# Altium footprint library YAYAT-LIB.PcbLib: 42 footprints (part 2 of 3)
Each footprint in its own frame and in the unit in brackets; x right, y up, seen from the top. Pads: shape width x height; smd on the part's side, far side on the other; paste and mask are expansions set on the pad; w line width, h text height; cw(c..) or ccw(c..) is an arc to the next point about the centre after c.
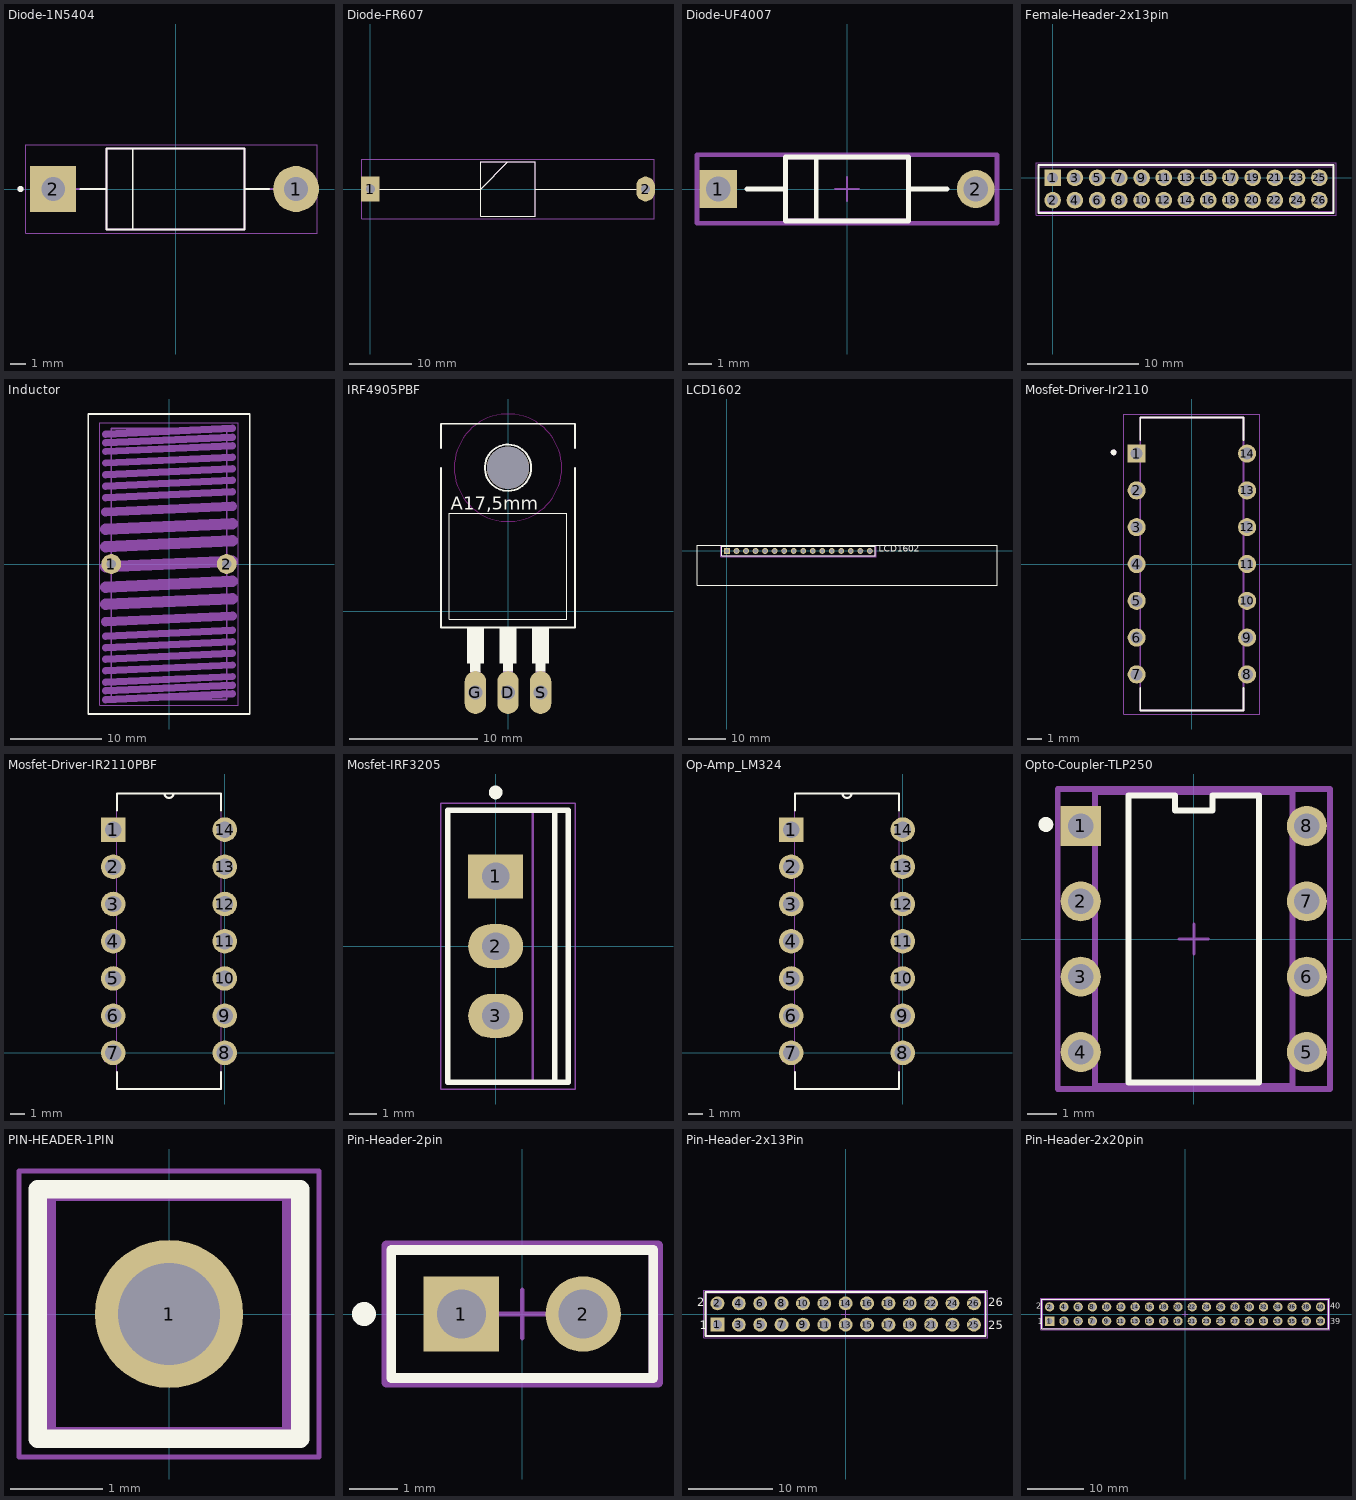
[diagram p1: the footprints below, top view; thin cyan lines are the x and y axes]

## Diode-1N5404 [mm]
pads (2):
  round 3 hole 1.55: 1(7.874,0)
  rect 3x3 hole 1.55: 2(-8.001,0)
Top Overlay:
  circle w0.2: c-10.133,0 r0.1
  lines w0.127: -6.223,0 -4.5,0 ; -2.8,-2.6 -2.8,2.6 ; 6.096,0 4.5,0 ; -4.5,0 -4.5,-2.65 4.5,-2.65 4.5,0 ; -4.5,0 -4.5,2.65 4.5,2.65 4.5,0
Mechanical 13:
  circle w0.2: c-10.133,0 r0.1
  lines w0.127: -6.477,0 -4.5,0 ; 6.35,0 4.5,0 ; -4.5,0 -4.5,-2.65 4.5,-2.65 4.5,0 ; -4.5,0 -4.5,2.65 4.5,2.65 4.5,0
Mechanical 15:
  lines w0.05: -9.779,-2.9 9.271,-2.9 9.271,2.9 -9.779,2.9 -9.779,-2.9
3D body "step_temp.STEP": height 5.6, standoff -14.67, extent -8.435,-2.8 8.435,2.8

## Diode-FR607 [mm]
pads (2):
  rect 3x4 hole 1.5: 1(0,0)
  oval 3x4 hole 1.5: 2(44.3,0)
Top Overlay:
  lines w0.2: 1.475,0 17.725,0 22.15,4.425 ; 26.575,0 42.825,0 ; 17.725,-4.425 17.725,4.425 26.575,4.425 26.575,-4.425 17.725,-4.425
Top Courtyard:
  lines w0.05: -1.375,-4.775 -1.375,4.775 45.675,4.775 45.675,-4.775 -1.375,-4.775
Mechanical 13:
  lines w0.1: 0,0 17.725,0 22.15,4.425 ; 26.575,0 44.3,0 ; 17.725,-4.425 17.725,4.425 26.575,4.425 26.575,-4.425 17.725,-4.425
3D body "FR607-G.stp": height 9.1, standoff -9.1, extent -0.645,-4.55 44.9,4.55

## Diode-UF4007 [mm]
pads (2):
  rect 1.6x1.6 hole 1.05 paste-1000 mask+0: 1(-5.438,0)
  round 1.6 hole 1.05 paste-1000 mask+0: 2(5.438,0)
Top Overlay:
  lines w0.2: -4.238,0 -2.6,0 ; -1.3,-1.28 -1.3,1.28 ; 2.6,0 4.238,0 ; -2.6,-1.35 2.6,-1.35 2.6,1.35 -2.6,1.35 -2.6,-1.35
Top 3D Body:
  lines w0.2: -2.6,-1.35 2.6,-1.35 2.6,1.35 -2.6,1.35 -2.6,-1.35
Top Assembly:
  lines w0.2: -6.338,-1.45 6.338,-1.45 6.338,1.45 -6.338,1.45 -6.338,-1.45
  text ".Designator" at 0,0.188 h1
Top Courtyard:
  lines w0.2: -6.338,-1.45 6.338,-1.45 6.338,1.45 -6.338,1.45 -6.338,-1.45
Top Component Center:
  lines w0.1: -0.5,0 0.5,0 ; 0,-0.5 0,0.5
3D body "Diode_Vishay_UF4007-E3-54_eec.STEP": height 0.25, standoff 0, extent -6.338,-1.45 6.338,1.45

## Female-Header-2x13pin [mm] "Socket Strip Assembly, 2x13 Pins, Vertical, 2mm Pitch, Female"
height 6.35
pads (26):
  rect 1.5x1.5 hole 0.99: 1(0,0)
  round 1.5 hole 0.99: 2(0,-2) 3(2,0) 4(2,-2) 5(4,0) 6(4,-2) 7(6,0) 8(6,-2) 9(8,0) 10(8,-2) 11(10,0) 12(10,-2) 13(12,0) 14(12,-2) 15(14,0) 16(14,-2) 17(16,0) 18(16,-2) 19(18,0) 20(18,-2) 21(20,0) 22(20,-2) 23(22,0) 24(22,-2) 25(24,0) 26(24,-2)
Top Overlay:
  lines w0.2: -1.275,-3.15 25.275,-3.15 25.275,1.15 -1.275,1.15 -1.275,-3.15
Mechanical 13:
  lines w0.1: -1.275,-3 25.275,-3 25.275,1 -1.275,1 -1.275,-3
Mechanical 15:
  lines w0.05: -1.5,-3.375 25.5,-3.375 25.5,1.375 -1.5,1.375 -1.5,-3.375
3D body "SQT-113-01-X-D.step": height 6.35, standoff -2.29, extent -1.149,-3 25.149,1

## Inductor [mil]
pads (2):
  round 86 hole 40: 1(-250,0) 2(250,0)
Top Overlay:
  lines w8: -350,-650 -350,650 350,650 350,-650 -350,-650
Mechanical 13:
  lines w2: -300,-612.5 300,-612.5 300,612.5 -300,612.5 -300,-612.5
  lines w8: -250,-587.5 250,-587.5 250,587.5 -250,587.5 -250,-587.5
  lines w32: -275,-587.5 275,-562.5 ; -275,-550 275,-525 ; -275,-512.5 275,-487.5 ; -275,-462.5 275,-437.5 ; -275,-412.5 275,-387.5 ; -275,-362.5 275,-337.5 ; -275,-312.5 275,-287.5 ; -275,287.5 275,312.5 ; -275,337.5 275,362.5 ; -275,387.5 275,412.5 ; -275,437.5 275,462.5 ; -275,487.5 275,512.5 ; -275,525 275,550 ; -275,562.5 275,587.5
  lines w40: -275,-250 275,-225 ; -275,225 275,250
  lines w50: -275,-175 275,-150 ; -275,-100 275,-75 ; -275,-12.5 275,12.5 ; -275,75 275,100 ; -275,150 275,175
3D body "PE-53117.STEP": height 1400, standoff -150, extent -355,-645 355,655

## IRF4905PBF [mil]
pads (4):
  oval 66x132 hole 44: D(0,-250) G(-100,-250) S(100,-250)
  round 130 hole 130 unplated: ""(0,440)
Top Overlay:
  circle w6: c0,440 r71
  region: 115,-185.4 85.18,-185.4 85.18,-160 115,-160
  region: 15,-185.1 -15.01,-185.1 -15.01,-160 15,-160
  region: -85,-185.55 -115.34,-185.55 -115.34,-160 -85,-160
  region: -75,-160.36 -125.28,-160.36 -125.28,-50 -75,-50
  region: 25,-160.26 -25.04,-160.26 -25.04,-50 25,-50
  region: 125,-160.29 75.14,-160.29 75.14,-50 125,-50
  lines w2: -180,-25 180,-25 180,300 -180,300 -180,-25
  lines w6: -205,440 -205,-50 205,-50 205,440 ; -205,500 -205,575 205,575 205,500
  text "A17,5mm" at -175.44,310.78 h40.1
Keep-Out Layer:
  circle w0: c0,440 r165
  circle w0: c0,440 r165
Mechanical 13:
  region: -85,-260.42 -115.19,-260.42 -115.19,-185 -85,-185
  region: 15,-260.55 -15.03,-260.55 -15.03,-185 15,-185
  region: 115,-260.12 85.04,-260.12 85.04,-185 115,-185

## LCD1602 [mm] ".025 SQ Post Terminal Strip Assembly, 1x16 Pins, Vertical, 2.54mm Pitch, Male"
height 8.58
pads (16):
  rect 1.55x1.55 hole 1.02: 1(0,0)
  round 1.55 hole 1.02: 2(2.54,0) 3(5.08,0) 4(7.62,0) 5(10.16,0) 6(12.7,0) 7(15.24,0) 8(17.78,0) 9(20.32,0) 10(22.86,0) 11(25.4,0) 12(27.94,0) 13(30.48,0) 14(33.02,0) 15(35.56,0) 16(38.1,0)
Top Overlay:
  lines w0.2: -8,-9.1 72,-9.1 72,1.5 -8,1.5 -8,-9.1 ; -1.46,-1.27 39.56,-1.27 39.56,1.27 -1.46,1.27 -1.46,-1.27
  text "LCD1602" at 40.5,-0.867 h3
Mechanical 13:
  lines w0.1: -1.46,-1.27 39.56,-1.27 39.56,1.27 -1.46,1.27 -1.46,-1.27
Mechanical 15:
  lines w0.05: -1.685,-1.495 39.785,-1.495 39.785,1.495 -1.685,1.495 -1.685,-1.495
3D body "TSW-116-08-X-S.step": height 8.38, standoff -5.08, extent -1.27,-1.27 39.37,1.27

## Mosfet-Driver-Ir2110 [mm]
pads (14):
  rect 1.25x1.25 hole 0.83: 1(-3.81,7.62)
  round 1.25 hole 0.83: 2(-3.81,5.08) 3(-3.81,2.54) 4(-3.81,0) 5(-3.81,-2.54) 6(-3.81,-5.08) 7(-3.81,-7.62) 8(3.81,-7.62) 9(3.81,-5.08) 10(3.81,-2.54) 11(3.81,0) 12(3.81,2.54) 13(3.81,5.08) 14(3.81,7.62)
Top Overlay:
  circle w0.2: c-5.4,7.7 r0.1
  lines w0.127: -3.56,-8.557 -3.56,-10.1 3.56,-10.1 3.56,-8.557 ; -3.56,8.557 -3.56,10.1 3.56,10.1 3.56,8.557
Mechanical 13:
  circle w0.2: c-5.4,7.7 r0.1
  lines w0.127: -3.56,-10.1 -3.56,10.1 3.56,10.1 3.56,-10.1 -3.56,-10.1
Mechanical 15:
  lines w0.05: -4.69,-10.35 -4.69,10.35 4.69,10.35 4.69,-10.35 -4.69,-10.35
3D body "IR2110--3DModel-STEP-56544.STEP": height 5.33, standoff -4.06, extent -4.083,-9.652 3.829,9.652

## Mosfet-Driver-IR2110PBF [mil]
pads (14):
  rect 66x66 hole 44: 1(-300,600)
  round 66 hole 44: 2(-300,500) 3(-300,400) 4(-300,300) 5(-300,200) 6(-300,100) 7(-300,0) 8(0,0) 9(0,100) 10(0,200) 11(0,300) 12(0,400) 13(0,500) 14(0,600)
Top Overlay:
  lines w6: -290,-51 -290,-97 -10,-97 -10,-51 ; -290,652 -290,697 -162,697 ; -10,651 -10,697 -138,697 ; -162,697 ccw(c-150,697) -138,697 ; -162,697 -138,697
Mechanical 13:
  lines w0: -162,697 ccw(c-150,697) -138,697 ; -162,697 -290,697 -290,-97 -10,-97 -10,697 -138,697 ; -162,697 -138,697 ; -322,-22 -290,-22 -290,22 -322,22 -322,-22 ; -322,78 -290,78 -290,122 -322,122 -322,78 ; -322,178 -290,178 -290,222 -322,222 -322,178 ; -322,278 -290,278 -290,322 -322,322 -322,278 ; -322,378 -290,378 -290,422 -322,422 -322,378 ; -322,478 -290,478 -290,522 -322,522 -322,478 ; -322,578 -290,578 -290,622 -322,622 -322,578 ; -10,-22 22,-22 22,22 -10,22 -10,-22 ; -10,78 22,78 22,122 -10,122 -10,78 ; -10,178 22,178 22,222 -10,222 -10,178 ; -10,278 22,278 22,322 -10,322 -10,278 ; -10,378 22,378 22,422 -10,422 -10,378 ; -10,478 22,478 22,522 -10,522 -10,478 ; -10,578 22,578 22,622 -10,622 -10,578
3D body "ir2110pbf.stp": height 177.17, standoff -157.48, extent -304.72,-79.84 0,680

## Mosfet-IRF3205 [mm] "FM, 3-Leads, Body 9.9x4.4mm, Pitch 2.54mm"
height 20.2
pads (3):
  rect 2x1.6 hole 1: 1(0,2.54)
  oval 2x1.6 hole 1: 2(0,0) 3(0,-2.54)
Top Overlay:
  circle w0.25: c0,5.6 r0.125
  lines w0.2: 2.15,-4.95 2.15,4.95 ; -1.75,-4.95 -1.75,4.95 2.65,4.95 2.65,-4.95 -1.75,-4.95
Mechanical 13:
  lines w0.1: 1.35,-4.95 1.35,4.95 ; -1.75,-4.95 2.65,-4.95 2.65,4.95 -1.75,4.95 -1.75,-4.95
Mechanical 15:
  lines w0.05: -2,-5.2 2.9,-5.2 2.9,5.2 -2,5.2 -2,-5.2
  lines w0.1: -0.5,0 0.5,0 ; 0,-0.5 0,0.5
3D body: height 20.2, standoff 19.25, extent 1.35,-4.95 2.65,4.95
3D body: height 17.77, standoff 17.4, extent 1.35,-4.95 2.65,-1.85
3D body: height 17.77, standoff 17.4, extent 1.35,1.85 2.65,4.95
3D body: height 17.4, standoff 17.04, extent 1.35,-4.95 2.65,-1.85
3D body: height 17.4, standoff 17.04, extent 1.35,1.85 2.65,4.95
3D body: height 18.11, standoff 17.76, extent 1.35,-4.95 2.65,-1.814
3D body: height 18.11, standoff 17.76, extent 1.35,1.814 2.65,4.95
3D body: height 17.04, standoff 16.69, extent 1.35,-4.95 2.65,-1.814
3D body: height 17.04, standoff 16.69, extent 1.35,1.814 2.65,4.95
3D body: height 18.43, standoff 18.11, extent 1.35,-4.95 2.65,-1.709
3D body: height 18.43, standoff 18.11, extent 1.35,1.709 2.65,4.95
3D body: height 16.7, standoff 16.37, extent 1.35,-4.95 2.65,-1.709
3D body: height 16.7, standoff 16.37, extent 1.35,1.709 2.65,4.95
3D body: height 18.71, standoff 18.43, extent 1.35,-4.95 2.65,-1.538
3D body: height 18.71, standoff 18.43, extent 1.35,1.538 2.65,4.95
3D body: height 16.38, standoff 16.09, extent 1.35,-4.95 2.65,-1.538
3D body: height 16.38, standoff 16.09, extent 1.35,1.538 2.65,4.95
3D body: height 18.94, standoff 18.71, extent 1.35,-4.95 2.65,-1.308
3D body: height 18.94, standoff 18.71, extent 1.35,1.308 2.65,4.95
3D body: height 16.1, standoff 15.86, extent 1.35,-4.95 2.65,-1.308
3D body: height 16.1, standoff 15.86, extent 1.35,1.308 2.65,4.95
3D body: height 19.11, standoff 18.94, extent 1.35,-4.95 2.65,-1.028
3D body: height 19.11, standoff 18.94, extent 1.35,1.028 2.65,4.95
3D body: height 15.87, standoff 15.69, extent 1.35,-4.95 2.65,-1.028
3D body: height 15.87, standoff 15.69, extent 1.35,1.028 2.65,4.95
3D body: height 19.22, standoff 19.11, extent 1.35,-4.95 2.65,-0.708
3D body: height 19.22, standoff 19.11, extent 1.35,0.708 2.65,4.95
3D body: height 15.7, standoff 15.59, extent 1.35,-4.95 2.65,-0.708
3D body: height 15.7, standoff 15.59, extent 1.35,0.708 2.65,4.95
3D body: height 19.25, standoff 19.21, extent 1.35,-4.95 2.65,-0.361
3D body: height 19.25, standoff 19.21, extent 1.35,0.361 2.65,4.95
3D body: height 15.59, standoff 15.55, extent 1.35,-4.95 2.65,-0.361
3D body: height 15.59, standoff 15.55, extent 1.35,0.361 2.65,4.95
3D body: height 15.55, standoff 13.8, extent 1.35,-4.95 2.65,4.95
3D body: height 13.8, standoff 4.6, extent -1.75,-4.95 2.65,4.95
3D body: height 0, standoff -1.6, extent -0.25,-2.915 0.25,-2.165
3D body: height 4.6, standoff 0, extent -0.25,-3.065 0.25,-2.015
3D body: height 0, standoff -1.6, extent -0.25,-0.375 0.25,0.375
3D body: height 4.6, standoff 0, extent -0.25,-0.525 0.25,0.525
3D body: height 0, standoff -1.6, extent -0.25,2.165 0.25,2.915
3D body: height 4.6, standoff 0, extent -0.25,2.015 0.25,3.065

## Op-Amp_LM324 [mil]
pads (14):
  rect 66x66 hole 44: 1(-300,600)
  round 66 hole 44: 2(-300,500) 3(-300,400) 4(-300,300) 5(-300,200) 6(-300,100) 7(-300,0) 8(0,0) 9(0,100) 10(0,200) 11(0,300) 12(0,400) 13(0,500) 14(0,600)
Top Overlay:
  lines w6: -290,-51 -290,-97 -10,-97 -10,-51 ; -290,652 -290,697 -162,697 ; -10,651 -10,697 -138,697 ; -162,697 ccw(c-150,697) -138,697 ; -162,697 -138,697
Mechanical 13:
  lines w0: -162,697 ccw(c-150,697) -138,697 ; -162,697 -290,697 -290,-97 -10,-97 -10,697 -138,697 ; -162,697 -138,697 ; -322,-22 -290,-22 -290,22 -322,22 -322,-22 ; -322,78 -290,78 -290,122 -322,122 -322,78 ; -322,178 -290,178 -290,222 -322,222 -322,178 ; -322,278 -290,278 -290,322 -322,322 -322,278 ; -322,378 -290,378 -290,422 -322,422 -322,378 ; -322,478 -290,478 -290,522 -322,522 -322,478 ; -322,578 -290,578 -290,622 -322,622 -322,578 ; -10,-22 22,-22 22,22 -10,22 -10,-22 ; -10,78 22,78 22,122 -10,122 -10,78 ; -10,178 22,178 22,222 -10,222 -10,178 ; -10,278 22,278 22,322 -10,322 -10,278 ; -10,378 22,378 22,422 -10,422 -10,378 ; -10,478 22,478 22,522 -10,522 -10,478 ; -10,578 22,578 22,622 -10,622 -10,578
3D body "ir2110pbf.stp": height 177.17, standoff -157.48, extent -304.72,-79.84 0,680

## Opto-Coupler-TLP250 [mm]
pads (8):
  rect 1.35x1.35 hole 0.85 paste-1000 mask+0: 1(-3.81,3.81)
  round 1.35 hole 0.85 paste-1000 mask+0: 2(-3.81,1.27) 3(-3.81,-1.27) 4(-3.81,-3.81) 5(3.81,-3.81) 6(3.81,-1.27) 7(3.81,1.27) 8(3.81,3.81)
Top Overlay:
  circle w0.25: c-4.985,3.86 r0.125
  lines w0.2: -2.2,-4.83 -2.2,4.83 -0.629,4.83 -0.629,4.33 0.629,4.33 0.629,4.83 2.2,4.83 2.2,-4.83 -2.2,-4.83
Top 3D Body:
  lines w0.2: -3.325,-4.955 3.325,-4.955 3.325,4.955 -3.325,4.955 -3.325,-4.955
Top Assembly:
  lines w0.2: -4.585,-5.055 4.585,-5.055 4.585,5.055 -4.585,5.055 -4.585,-5.055
  text ".Designator" at 0,0.188 h1
Top Courtyard:
  lines w0.2: -4.585,-5.055 4.585,-5.055 4.585,5.055 -4.585,5.055 -4.585,-5.055
Top Component Center:
  lines w0.1: -0.5,0 0.5,0 ; 0,-0.5 0,0.5
3D body "Trans_TOSHIBA_TLP250_eec.STEP": height 0.25, standoff 0, extent -4.585,-5.055 4.585,5.055

## PIN-HEADER-1PIN [mm] "Pin Header, pitch 2.54 mm, THT, Vertical, single row, 1p"
height 8.54
pads (1):
  round 1.6 hole 1.1: 1(0,0)
Top Overlay:
  lines w0.2: -1.42,-1.345 -1.42,1.345 1.42,1.345 1.42,-1.345 -1.42,-1.345
Mechanical 13:
  lines w0.1: -1.27,-1.27 1.27,-1.27 1.27,1.27 -1.27,1.27 -1.27,-1.27
Mechanical 15:
  lines w0.05: -0.5,0 0.5,0 ; 0,-0.5 0,0.5 ; -1.62,-1.545 1.62,-1.545 1.62,1.545 -1.62,1.545 -1.62,-1.545
3D body "61300111121.stp": height 8.57, standoff -2.97, extent -1.27,-1.27 1.27,1.27

## Pin-Header-2pin [mm]
pads (2):
  rect 1.57x1.57 hole 1.02 paste-1000 mask+0: 1(-1.27,0)
  round 1.57 hole 1.02 paste-1000 mask+0: 2(1.27,0)
Top Overlay:
  circle w0.25: c-3.3,0 r0.125
  lines w0.2: -2.73,-1.335 2.73,-1.335 2.73,1.335 -2.73,1.335 -2.73,-1.335
Top 3D Body:
  lines w0.2: -2.73,-1.335 2.73,-1.335 2.73,1.335 -2.73,1.335 -2.73,-1.335
Top Assembly:
  lines w0.2: -2.83,-1.435 2.83,-1.435 2.83,1.435 -2.83,1.435 -2.83,-1.435
  text ".Designator" at 0,0.188 h1
Top Courtyard:
  lines w0.2: -2.83,-1.435 2.83,-1.435 2.83,1.435 -2.83,1.435 -2.83,-1.435
Top Component Center:
  lines w0.1: -0.5,0 0.5,0 ; 0,-0.5 0,0.5
3D body "Conn_Samtec_TSW-102-07-G-S_eec.STEP": height 0.25, standoff 0, extent -2.83,-1.435 2.83,1.435

## Pin-Header-2x13Pin [mm] "Pin Header, pitch 2.54 mm, THT, Vertical, dual row, 26p"
height 8.54
pads (26):
  rect 1.65x1.65 hole 1.1: 1(-15.24,-1.27)
  round 1.65 hole 1.1: 2(-15.24,1.27) 3(-12.7,-1.27) 4(-12.7,1.27) 5(-10.16,-1.27) 6(-10.16,1.27) 7(-7.62,-1.27) 8(-7.62,1.27) 9(-5.08,-1.27) 10(-5.08,1.27) 11(-2.54,-1.27) 12(-2.54,1.27) 13(0,-1.27) 14(0,1.27) 15(2.54,-1.27) 16(2.54,1.27) 17(5.08,-1.27) 18(5.08,1.27) 19(7.62,-1.27) 20(7.62,1.27) 21(10.16,-1.27) 22(10.16,1.27) 23(12.7,-1.27) 24(12.7,1.27) 25(15.24,-1.27) 26(15.24,1.27)
Top Overlay:
  lines w0.2: -16.66,-2.615 16.66,-2.615 16.66,2.615 -16.66,2.615 -16.66,-2.615
  text "2" at -17.67,0.9 h1.02
  text "1" at -17.37,-1.8 h1.02
  text "25" at 16.97,-1.8 h1.02
  text "26" at 16.97,0.9 h1.02
Mechanical 13:
  lines w0.1: -16.51,-2.54 16.51,-2.54 16.51,2.54 -16.51,2.54 -16.51,-2.54
Mechanical 15:
  lines w0.05: -0.5,0 0.5,0 ; 0,-0.5 0,0.5 ; -16.86,-2.815 -16.86,2.815 16.86,2.815 16.86,-2.815 -16.86,-2.815
3D body "61302621121.stp": height 8.59, standoff -2.95, extent -16.51,-2.54 16.51,2.54

## Pin-Header-2x20pin [mm] "Pin Header, pitch 2.54 mm, THT, Vertical, dual row, 40p"
height 8.54
pads (40):
  rect 1.65x1.65 hole 1.1: 1(-24.13,-1.27)
  round 1.65 hole 1.1: 2(-24.13,1.27) 3(-21.59,-1.27) 4(-21.59,1.27) 5(-19.05,-1.27) 6(-19.05,1.27) 7(-16.51,-1.27) 8(-16.51,1.27) 9(-13.97,-1.27) 10(-13.97,1.27) 11(-11.43,-1.27) 12(-11.43,1.27) 13(-8.89,-1.27) 14(-8.89,1.27) 15(-6.35,-1.27) 16(-6.35,1.27) 17(-3.81,-1.27) 18(-3.81,1.27) 19(-1.27,-1.27) 20(-1.27,1.27) 21(1.27,-1.27) 22(1.27,1.27) 23(3.81,-1.27) 24(3.81,1.27) 25(6.35,-1.27) 26(6.35,1.27) 27(8.89,-1.27) 28(8.89,1.27) 29(11.43,-1.27) 30(11.43,1.27) 31(13.97,-1.27) 32(13.97,1.27) 33(16.51,-1.27) 34(16.51,1.27) 35(19.05,-1.27) 36(19.05,1.27) 37(21.59,-1.27) 38(21.59,1.27) 39(24.13,-1.27) 40(24.13,1.27)
Top Overlay:
  lines w0.2: -25.55,-2.615 -25.55,2.615 25.55,2.615 25.55,-2.615 -25.55,-2.615
  text "40" at 25.86,0.9 h1.02
  text "39" at 25.86,-1.8 h1.02
  text "1" at -26.26,-1.8 h1.02
  text "2" at -26.56,0.9 h1.02
Mechanical 13:
  lines w0.1: -25.4,-2.54 -25.4,2.54 25.4,2.54 25.4,-2.54 -25.4,-2.54
Mechanical 15:
  lines w0.05: -0.5,0 0.5,0 ; 0,-0.5 0,0.5 ; -25.75,-2.815 25.75,-2.815 25.75,2.815 -25.75,2.815 -25.75,-2.815
3D body "61304021121.stp": height 8.59, standoff -2.95, extent -25.4,-2.54 25.4,2.54